# Altium footprint library PcbLib1.PcbLib: 5 footprints
Each footprint in its own frame and in the unit in brackets; x right, y up, seen from the top. Pads: shape width x height; smd on the part's side, far side on the other; paste and mask are expansions set on the pad; w line width, h text height; cw(c..) or ccw(c..) is an arc to the next point about the centre after c.
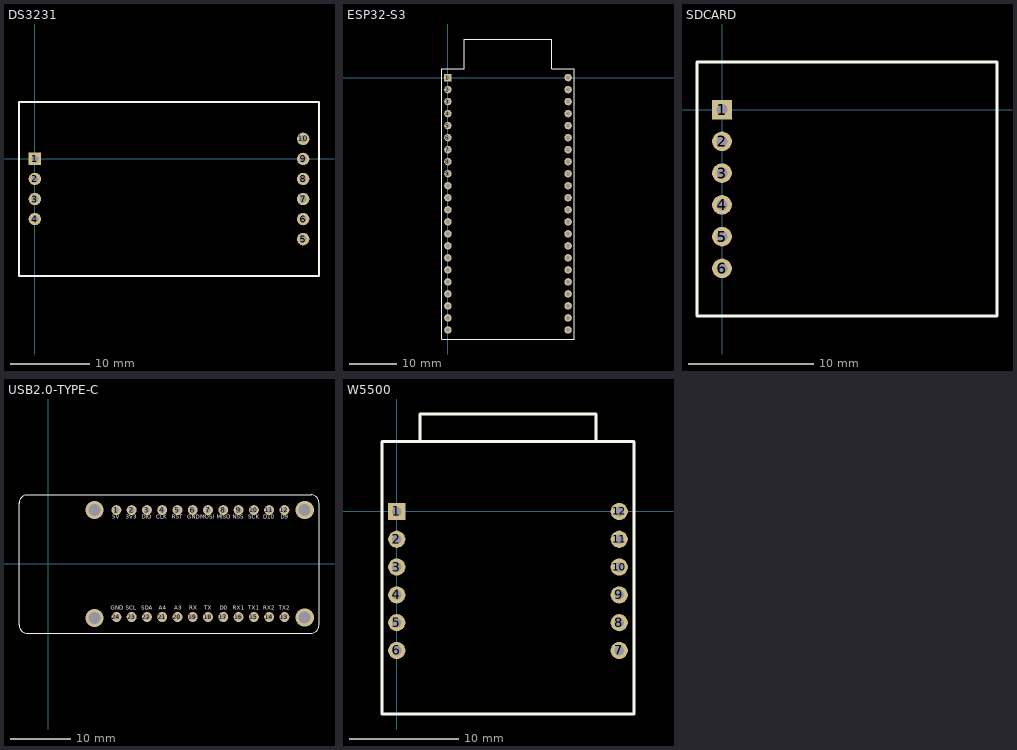
[diagram p0: the footprints below, top view; thin cyan lines are the x and y axes]

## DS3231 [mil]
pads (10):
  rect 62x62 hole 35: 1(0,0)
  round 62 hole 35: 2(0,-100) 3(0,-200) 4(0,-300) 5(1338.58,-400) 6(1338.58,-300) 7(1338.58,-200) 8(1338.58,-100) 9(1338.58,0) 10(1338.58,100)
Top Overlay:
  lines w10: -78.74,-583.07 -78.74,283.07 1417.32,283.07 1417.32,-583.07 -78.74,-583.07

## ESP32-S3 [mil]
pads (44):
  rect 62x62 hole 35: 1(0,0)
  round 62 hole 35: 2(0,-100) 3(0,-200) 4(0,-300) 5(0,-400) 6(0,-500) 7(0,-600) 8(0,-700) 9(0,-800) 10(0,-900) 11(0,-1000) 12(0,-1100) 13(0,-1200) 14(0,-1300) 15(0,-1400) 16(0,-1500) 17(0,-1600) 18(0,-1700) 19(0,-1800) 20(0,-1900) 21(0,-2000) 22(0,-2100) 23(1000,-2100) 24(1000,-2000) 25(1000,-1900) 26(1000,-1800) 27(1000,-1700) 28(1000,-1600) 29(1000,-1500) 30(1000,-1400) 31(1000,-1300) 32(1000,-1200) 33(1000,-1100) 34(1000,-1000) 35(1000,-900) 36(1000,-800) 37(1000,-700) 38(1000,-600) 39(1000,-500) 40(1000,-400) 41(1000,-300) 42(1000,-200) 43(1000,-100) 44(1000,0)
Top Overlay:
  lines w10: -50,-2175.2 1050,-2175.2 1050,75.2 865,75.2 865,320.87 135,320.87 135,75.2 -50,75.2 -50,-2175.2

## SDCARD [mil]
pads (6):
  rect 62x62 hole 35: 1(0,0)
  round 62 hole 35: 2(0,-100) 3(0,-200) 4(0,-300) 5(0,-400) 6(0,-500)
Top Overlay:
  lines w10: -78.74,-650 866.14,-650 866.14,150 -78.74,150 -78.74,-650

## USB2.0-TYPE-C [mil] "USB2.0-TYPE-C"
pads (24):
  round 65 hole 35: 1(447.5,350.26) 2(547.5,350.26) 3(647.5,350.26) 4(747.5,350.26) 5(847.5,350.26) 6(947.5,350.26) 7(1047.5,350.26) 8(1147.5,350.26) 9(1247.5,350.26) 10(1347.5,350.26) 11(1447.5,350.26) 12(1547.5,350.26) 13(1547.5,-349.74) 14(1447.5,-349.74) 15(1347.5,-349.74) 16(1247.5,-349.74) 17(1147.5,-349.74) 18(1047.5,-349.74) 19(947.5,-349.74) 20(847.5,-349.74) 21(747.5,-349.74) 22(647.5,-349.74) 23(547.5,-349.74) 24(447.5,-349.74)
via 303.07,350.83 diameter 118.11 hole 78.74
via 303.07,-356.67 diameter 118.11 hole 78.74
via 1680.57,-351.67 diameter 118.11 hole 78.74
via 1680.57,350.83 diameter 118.11 hole 78.74
Top Overlay:
  lines w6: -190,395.31 cw(c-136.15,395.31) -136.15,449.16 ; -190,396.85 -190,-401.15 ccw(c-136.15,-401.15) -136.15,-455 1728.84,-455 ; -139.68,450 1722.67,450 cw(c1722.67,398.7) 1773.97,398.7 1773.97,-403.7 cw(c1722.67,-403.7) 1722.67,-455
  text "5V" at 420,282.64 h46.5
  text "3V3" at 510,282.64 h46.5
  text "DIO" at 615,282.64 h46.5
  text "CLK" at 710,282.64 h46.5
  text "RST" at 810,282.64 h46.5
  text "GND" at 910,282.64 h46.5
  text "MOSI" at 997.5,282.64 h46.5
  text "MISO" at 1105,282.64 h46.5
  text "NSS" at 1210,282.64 h46.5
  text "SCK" at 1310,282.64 h46.5
  text "D10" at 1410,282.64 h46.5
  text "D9" at 1525,282.64 h46.5
  text "TX2" at 1510,-312.64 h46.5
  text "RX2" at 1410,-312.64 h46.5
  text "TX1" at 1310,-312.64 h46.5
  text "RX1" at 1210,-312.64 h46.5
  text "D0" at 1125,-312.64 h46.5
  text "GND" at 410,-312.64 h46.5
  text "SCL" at 510,-312.64 h46.5
  text "SDA" at 610,-312.64 h46.5
  text "A4" at 725,-312.64 h46.5
  text "A3" at 825,-312.64 h46.5
  text "TX" at 1022.5,-312.64 h46.5
  text "RX" at 925,-312.64 h46.5
Mechanical 1:
  lines w6: -190,-401.15 ccw(c-136.15,-401.15) -136.15,-455

## W5500 [mil]
pads (12):
  rect 62x62 hole 35: 1(0,0)
  round 62 hole 35: 2(0,-100) 3(0,-200) 4(0,-300) 5(0,-400) 6(0,-500) 7(800,-500) 8(800,-400) 9(800,-300) 10(800,-200) 11(800,-100) 12(800,0)
Top Overlay:
  lines w10: 83.07,251.97 83.07,350.39 716.93,350.39 716.93,251.97 ; -52.76,-728.35 -52.76,251.97 852.76,251.97 852.76,-728.35 -52.76,-728.35